# EAGLE library part FST3253 (library FST3253)
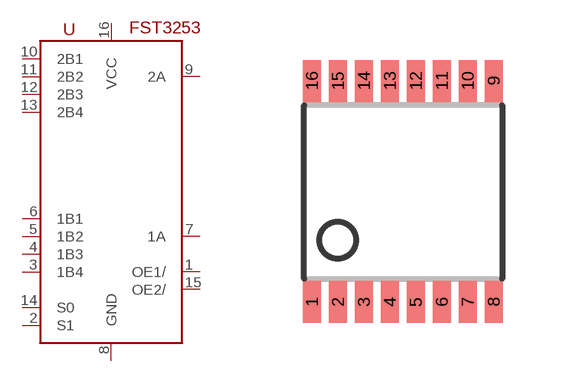
[diagram p0: symbol with the pads of TSSOP16; footprint TSSOP16]

Designator prefix -

## FST3253  [TSSOP16]
1  OE1/  in
2  S1  in
3  1B4
4  1B3
5  1B2
6  1B1
7  1A
8  GND  pwr
9  2A
10  2B1
11  2B2
12  2B3
13  2B4
14  S0  in
15  OE2/  in
16  VCC  pwr

## Footprint TSSOP16 (pad centres in mm)
smd 0.45 x 1.05: 1 -2.275,-2.768; 2 -1.625,-2.768; 3 -0.975,-2.768; 4 -0.325,-2.768; 5 0.325,-2.768; 6 0.975,-2.768; 7 1.625,-2.768; 8 2.275,-2.768; 9 2.275,2.768; 10 1.625,2.768; 11 0.975,2.768; 12 0.325,2.768; 13 -0.325,2.768; 14 -0.975,2.768; 15 -1.625,2.768; 16 -2.275,2.768